# Altium footprint library Orient3.PcbLib: 18 footprints (part 2 of 2)
Each footprint in its own frame and in the unit in brackets; x right, y up, seen from the top. Pads: shape width x height; smd on the part's side, far side on the other; paste and mask are expansions set on the pad; w line width, h text height; cw(c..) or ccw(c..) is an arc to the next point about the centre after c.
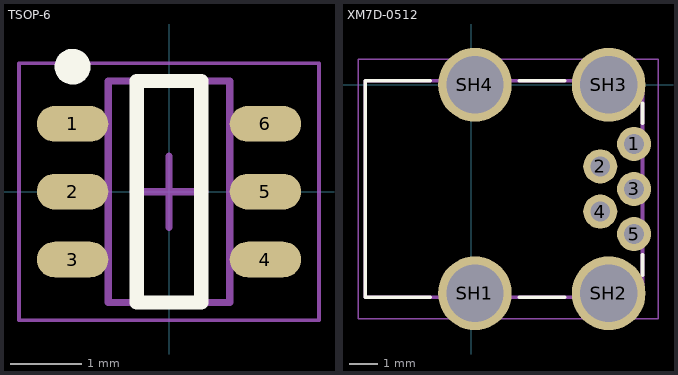
[diagram p1: the footprints below, top view; thin cyan lines are the x and y axes]

## TSOP-6 [mm] "TSOP, 6-Leads, Body 2.90x1.50mm, Pitch 0.95mm, IPC Medium Density"
height 1.1
pads (6):
  oval 1x0.5 smd: 1(-1.35,0.95) 2(-1.35,0) 3(-1.35,-0.95) 4(1.35,-0.95) 5(1.35,0) 6(1.35,0.95)
Top Overlay:
  circle w0.25: c-1.35,1.75 r0.125
  lines w0.2: -0.45,-1.55 -0.45,1.55 0.45,1.55 0.45,-1.55 -0.45,-1.55
Mechanical 13:
  lines w0.1: -0.85,-1.55 -0.85,1.55 0.85,1.55 0.85,-1.55 -0.85,-1.55
Mechanical 15:
  lines w0.05: -2.1,-1.8 -2.1,1.8 2.1,1.8 2.1,-1.8 -2.1,-1.8
  lines w0.1: -0.5,0 0.5,0 ; 0,-0.5 0,0.5
3D body "TSOP6.step": height 1.1, standoff 0, extent -1.375,-1.55 1.375,1.55

## XM7D-0512 [mm]
pads (9):
  round 1.208 hole 0.7 mask+0.05: 1(5.777,-2.1) 2(4.577,-2.9) 3(5.777,-3.7) 4(4.577,-4.5) 5(5.777,-5.3)
  round 2.616 hole 2.032: SH1(0.127,-7.4) SH2(4.877,-7.4) SH3(4.877,0) SH4(0.127,0)
Top Overlay:
  lines w0.127: -1.463,-7.55 -3.773,-7.55 -3.773,0.15 -1.463,0.15 ; 1.697,-7.55 3.307,-7.55 ; 1.697,0.15 3.307,0.15 ; 6.077,-6.76 6.077,-6.03 ; 6.077,-1.36 6.077,-0.65
Mechanical 1:
  lines w0: -0.823,-7.8 1.077,-7.8 1.077,-7 -0.823,-7 -0.823,-7.8 ; -0.823,-0.4 1.077,-0.4 1.077,0.4 -0.823,0.4 -0.823,-0.4 ; 3.927,-7.8 5.827,-7.8 5.827,-7 3.927,-7 3.927,-7.8 ; 3.927,-0.4 5.827,-0.4 5.827,0.4 3.927,0.4 3.927,-0.4
Mechanical 4:
  lines w0.127: -3.773,-7.55 6.077,-7.55 ; -3.773,-7.55 -3.773,0.15 ; -3.773,-7.55 6.077,-7.55 ; -3.773,-7.55 -3.773,0.15 ; -3.773,0.15 6.077,0.15 ; -3.773,0.15 6.077,0.15 ; 6.077,-7.55 6.077,0.15 ; 6.077,-7.55 6.077,0.15
Mechanical 16:
  lines w0.05: -4.023,-8.3 -4.023,0.9 6.627,0.9 6.627,-8.3 -4.023,-8.3
3D body "XM7D-0512.STEP": height 3.95, standoff -1.95, extent -3.8,-7.75 6.05,0.35